# EAGLE library part TSM-106-XX-XXX-SV (library TSM-106-XX-XXX-SV)
.100" (2,54mm) Surface Mount, Single Row, Vertical Mount. manufacturer:SAMTEC
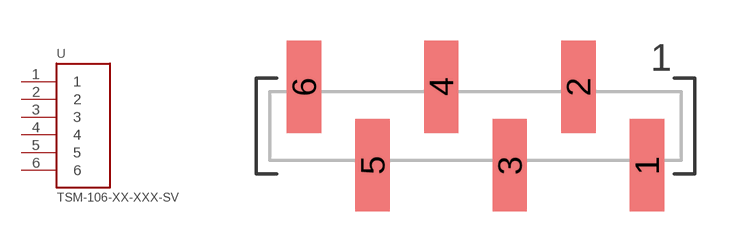
[diagram p0: symbol with the pads of TSM-106-XX-XXX-SV; footprint TSM-106-XX-XXX-SV]

Designator prefix -

## TSM-106-XX-XXX-SV  [TSM-106-XX-XXX-SV]
1  1
2  2
3  3
4  4
5  5
6  6

## Footprint TSM-106-XX-XXX-SV (pad centres in mm)
.100" (2,54mm) Surface Mount, Single Row, Vertical Mount. manufacturer:SAMTEC
smd 1.27 x 3.429: 1 6.35,-1.46; 2 3.81,1.46; 3 1.27,-1.46; 4 -1.27,1.46; 5 -3.81,-1.46; 6 -6.35,1.46